# EAGLE library part ADM3095EBRZ (library SamacSys_Parts)
Level 4 EMC Protected RS-485 Transceiver with Full +/-42 V Fault Protection Source: Datasheet <https://componentsearchengine.com/Datasheets/1/ADM3095EBRZ.pdf>
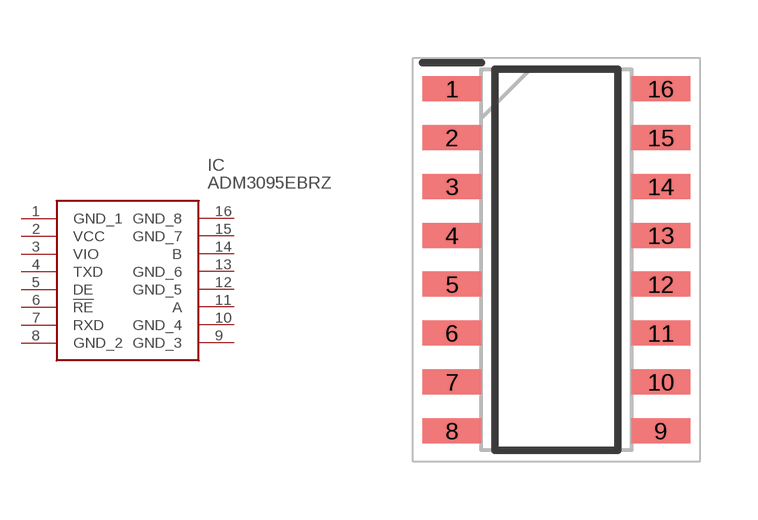
[diagram p0: symbol with the pads of SOIC127P600X175-16N; footprint SOIC127P600X175-16N]

Designator prefix IC

## ADM3095EBRZ (Description: Level 4 EMC Protected RS-485 Transceiver with Full +/-42 V Fault Protection; Height: 1.75mm; Manufacturer_Name: Analog Devices; Manufacturer_Part_Number: ADM3095EBRZ; Mouser_Part_Number: 584-ADM3095EBRZ; Mouser_Price-Stock: https://www.mouser.com/Search/Refine.aspx?Keyword=584-ADM3095EBRZ)  [SOIC127P600X175-16N]
1  GND_1  pwr
2  VCC  pwr
3  VIO  pwr
4  TXD  in
5  DE  in
6  !RE  in
7  RXD  out
8  GND_2  pwr
9  GND_3  pwr
10  GND_4  pwr
11  A
12  GND_5  pwr
13  GND_6  pwr
14  B
15  GND_7  pwr
16  GND_8  pwr

## Footprint SOIC127P600X175-16N (pad centres in mm)
R-16 (SOIC)
smd 1.525 x 0.65: 1 -2.712,4.445; 2 -2.712,3.175; 3 -2.712,1.905; 4 -2.712,0.635; 5 -2.712,-0.635; 6 -2.712,-1.905; 7 -2.712,-3.175; 8 -2.712,-4.445; 9 2.712,-4.445; 10 2.712,-3.175; 11 2.712,-1.905; 12 2.712,-0.635; 13 2.712,0.635; 14 2.712,1.905; 15 2.712,3.175; 16 2.712,4.445